# Altium schematic symbol library SWRB1204S-220MT.SchLib: 1 symbol
Pins are listed as number, name and electrical type; pins without a type are passive.

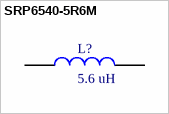
[diagram p0: symbol SRP6540-5R6M]

## SRP6540-5R6M
designator L?, comment 5.6 uH
DR74-220-R
footprint 470
footprint COBU-DR74-4R7-R_V (SMD, 2-Leads, Body 7.6x7.6mm)
pins: 1, 2